# EAGLE library part 66201111022 (library Wurth_Elektronik_Electromechanic_Wire_to_Board_Connectors_rev16a)
WR-MPC3 3.00mm Male Single Row Angled Header with Plastic Pegs, 11 Pins=>Code : Con_WTB_MPC3_1_PCB_66201111022 <http://katalog.we-online.de/media/thumbs2/eican/thb_Con_WTB_MPC3_1_PCB_6620xx11022_pf2.jpg> Details see: http://katalog.we-online.de/en/em/662_0xx_110_22 Created 2014-06-06, Karrer Zheng 2014 (C) Würth Elektronik
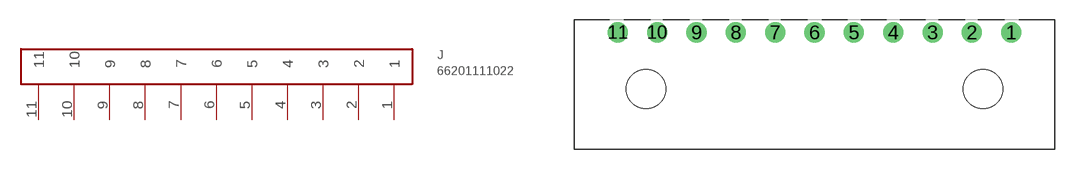
[diagram p356: symbol with the pads of 66201111022; footprint 66201111022]

Designator prefix J

## 66201111022  [66201111022]
1  1
2  2
3  3
4  4
5  5
6  6
7  7
8  8
9  9
10  10
11  11

## Footprint 66201111022 (pad centres in mm)
WR-MPC3 3.00mm Male Single Row Angled Header with Plastic Pegs, 11 Pins
drill 1.02: 1 15,4.32; 2 12,4.32; 3 9,4.32; 4 6,4.32; 5 3,4.32; 6 0,4.32; 7 -3,4.32; 8 -6,4.32; 9 -9,4.32; 10 -12,4.32; 11 -15,4.32
hole 3 at 12.84,0
hole 3 at -12.84,0